# EAGLE library part LMQ66420MC5RXBRQ1 (library LMQ66420MC5RXBRQ1)
Switching Voltage Regulators Automotive, 36-V, 2-A low-EMI synchronous step-down converter with 1.5-uA IQ 14-VQFN-FCRLF -40 to 150 Source: Datasheet <https://www.ti.com/lit/gpn/lmq66420-q1?HQS=ti-null-null-sf-df-pf-sep-wwe&DCM=yes?hkey=EF798316E3902B6ED9A73243A3159BB0>
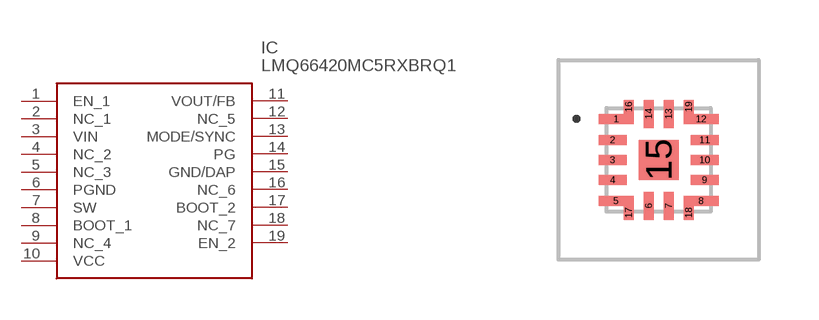
[diagram p0: symbol with the pads of LMQ66430R5RXBR; footprint LMQ66430R5RXBR]

Designator prefix IC

## LMQ66420MC5RXBRQ1 (Description: Switching Voltage Regulators Automotive, 36-V, 2-A low-EMI synchronous step-down converter with 1.5-uA IQ 14-VQFN-FCRLF -40 to 150; Height: 1.05mm; Manufacturer_Name: Texas Instruments; Manufacturer_Part_Number: LMQ66420MC5RXBRQ1; Mouser_Part_Number: 595-MQ66420MC5RXBRQ1; Mouser_Price-Stock: https://www.mouser.co.uk/ProductDetail/Texas-Instruments/LMQ66420MC5RXBRQ1?qs=1Kr7Jg1SGW%2FJb4To9Gytbg%3D%3D)  [LMQ66430R5RXBR]
1  EN_1
2  NC_1
3  VIN
4  NC_2
5  NC_3
6  PGND
7  SW
8  BOOT_1
9  NC_4
10  VCC
11  VOUT/FB
12  NC_5
13  MODE/SYNC
14  PG
15  GND/DAP
16  NC_6
17  BOOT_2
18  NC_7
19  EN_2

## Footprint LMQ66430R5RXBR (pad centres in mm)
RXB0014A
smd 0.875 x 0.25: 1 -1.062,1.025; 5 -1.062,-1.025; 8 1.063,-1.025; 12 1.063,1.025
smd 0.7 x 0.25: 2 -1.15,0.5; 3 -1.15,0; 4 -1.15,-0.5; 9 1.15,-0.5; 10 1.15,0; 11 1.15,0.5
smd 0.25 x 0.7: 6 -0.25,-1.15; 7 0.25,-1.15; 13 0.25,1.15; 14 -0.25,1.15
smd 1 x 1: 15 0,0
smd 0.25 x 0.35: 16 -0.75,1.325; 17 -0.75,-1.325; 18 0.75,-1.325; 19 0.75,1.325